# EAGLE library part PHB_1MM27_2X05_?_S (library _hhn_con_pinhead_box_1mm27)
Pin Header Box-Type, 1.27mm/0.5"/50mil Pitch, 2x05 Circuits, single gates in schematic Note: see library description for an important note about THT-version
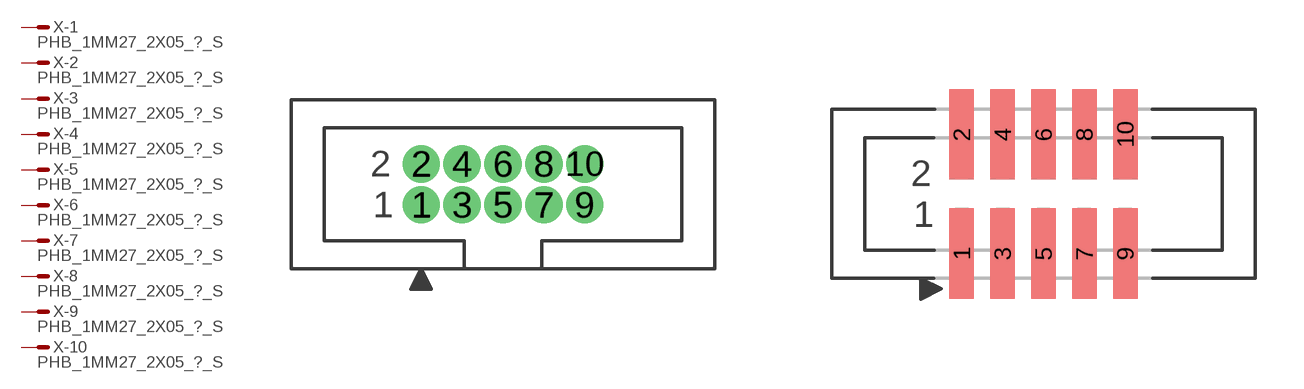
[diagram p36: symbol with the pads of PHB_1MM27_2X05_SNT; footprints PHB_1MM27_2X05_SNT, PHB_1MM27_2X05_SNS]

Designator prefix X; gates -1=M -2=M -3=M -4=M -5=M -6=M -7=M -8=M -9=M -10=M

## PHB_1MM27_2X05_SNT_S  [PHB_1MM27_2X05_SNT]
1  -1:S  pas
2  -2:S  pas
3  -3:S  pas
4  -4:S  pas
5  -5:S  pas
6  -6:S  pas
7  -7:S  pas
8  -8:S  pas
9  -9:S  pas
10  -10:S  pas

## PHB_1MM27_2X05_SNS_S  [PHB_1MM27_2X05_SNS]
Pads as for PHB_1MM27_2X05_SNT

## Footprint PHB_1MM27_2X05_SNT (pad centres in mm)
Pin Header Box-Type, 1.27mm Pitch, 2x05 circuits, Straight, No Locking, THT Important Note: Diameter in this lbr is set to a specific value (NOT 'auto' = 0), this is ignored by actual eagle versions if drc-settings result in a bigger diameter. Workaround: DRC > Restring: set "min value" to 8mil (on top, bottom, inner) This requires an 8-mil process (pcb manufacturer)! You may increase %-value, e.g. to 25%
drill 0.65 pad 1 round: 1 -2.54,-0.635; 2 -2.54,0.635; 3 -1.27,-0.635; 4 -1.27,0.635; 5 0,-0.635; 6 0,0.635; 7 1.27,-0.635; 8 1.27,0.635; 9 2.54,-0.635; 10 2.54,0.635

## Footprint PHB_1MM27_2X05_SNS (pad centres in mm)
Pin Header Box-Type, 1.27mm Pitch, 2x05 circuits, Straight, No Locking, SMT
smd 0.76 x 2.8: 1 -2.54,-1.85; 2 -2.54,1.85; 3 -1.27,-1.85; 4 -1.27,1.85; 5 0,-1.85; 6 0,1.85; 7 1.27,-1.85; 8 1.27,1.85; 9 2.54,-1.85; 10 2.54,1.85